# EAGLE library part MICROSD-HINGED (library MicroSdSocket)
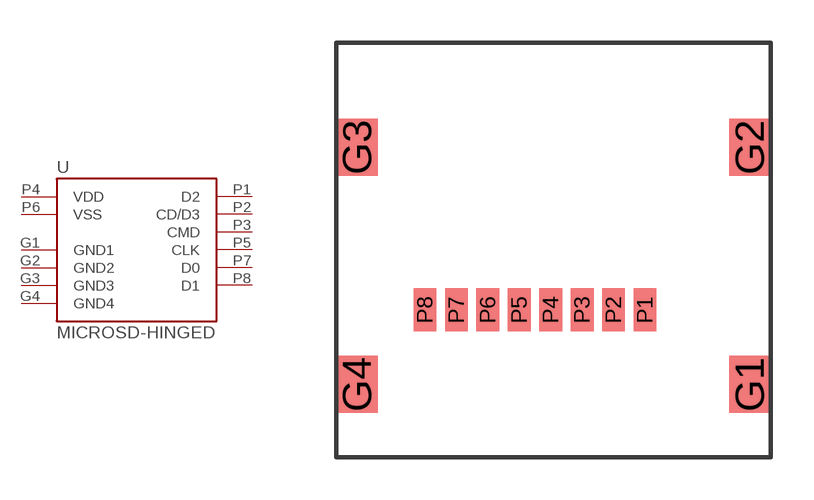
[diagram p1: symbol with the pads of MICRO_SD_HINGED_TYPE; footprint MICRO_SD_HINGED_TYPE]

Designator prefix -

## MICROSD-HINGED  [MICRO_SD_HINGED_TYPE]
G1  GND1
G2  GND2
G3  GND3
G4  GND4
P1  D2
P2  CD/D3
P3  CMD
P4  VDD
P5  CLK
P6  VSS
P7  D0
P8  D1

## Footprint MICRO_SD_HINGED_TYPE (pad centres in mm)
smd 1.45 x 2: G1 6.985,-4.275; G2 6.985,4.025; G3 -6.765,4.025; G4 -6.765,-4.275
smd 0.8 x 1.5: P1 3.315,-1.675; P2 2.215,-1.675; P3 1.115,-1.675; P4 0.015,-1.675; P5 -1.085,-1.675; P6 -2.185,-1.675; P7 -3.285,-1.675; P8 -4.385,-1.675